# EAGLE library part RFM22B-BREAKOUT (library PocketCube)
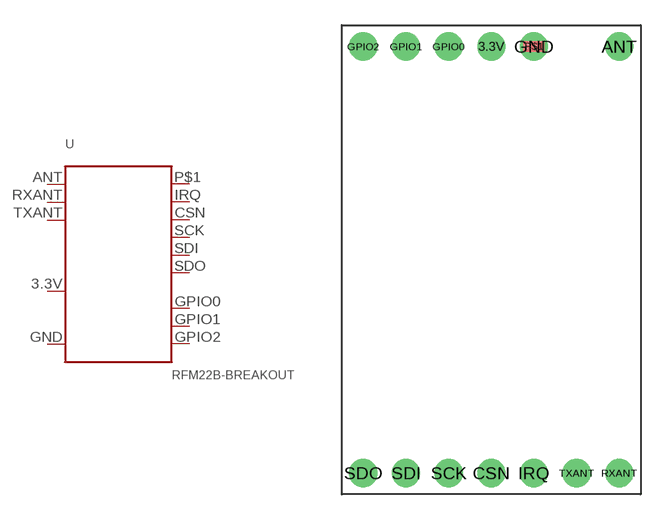
[diagram p9: symbol with the pads of RFM22B-BREAKOUT; footprint RFM22B-BREAKOUT]

Designator prefix -

## RFM22B-BREAKOUT  [RFM22B-BREAKOUT]
3.3V  VCC
ANT  ANT
CSN  NSEL
GND  GND
GPIO0  GPIO_0
GPIO1  GPIO_1
GPIO2  GPIO_2
IRQ  NIRQ
P$1  SDN
RXANT  RX_ANT
SCK  SCK
SDI  SDI
SDO  SDO
TXANT  TX_ANT

## Footprint RFM22B-BREAKOUT (pad centres in mm)
drill 1 pad 1.676: 3.3V 8.89,26.67; ANT 16.51,26.67; CSN 8.89,1.27; GND 11.43,26.67; GPIO0 6.35,26.67; GPIO1 3.81,26.67; GPIO2 1.27,26.67; IRQ 11.43,1.27; RXANT 16.51,1.27; SCK 6.35,1.27; SDI 3.81,1.27; SDO 1.27,1.27; TXANT 13.97,1.27
smd 1.27 x 0.635: P$1 11.43,26.67